# Altium footprint library CN_IDC14_1-828586-4.PcbLib: 1 footprints
Each footprint in its own frame and in the unit in brackets; x right, y up, seen from the top. Pads: shape width x height; smd on the part's side, far side on the other; paste and mask are expansions set on the pad; w line width, h text height; cw(c..) or ccw(c..) is an arc to the next point about the centre after c.
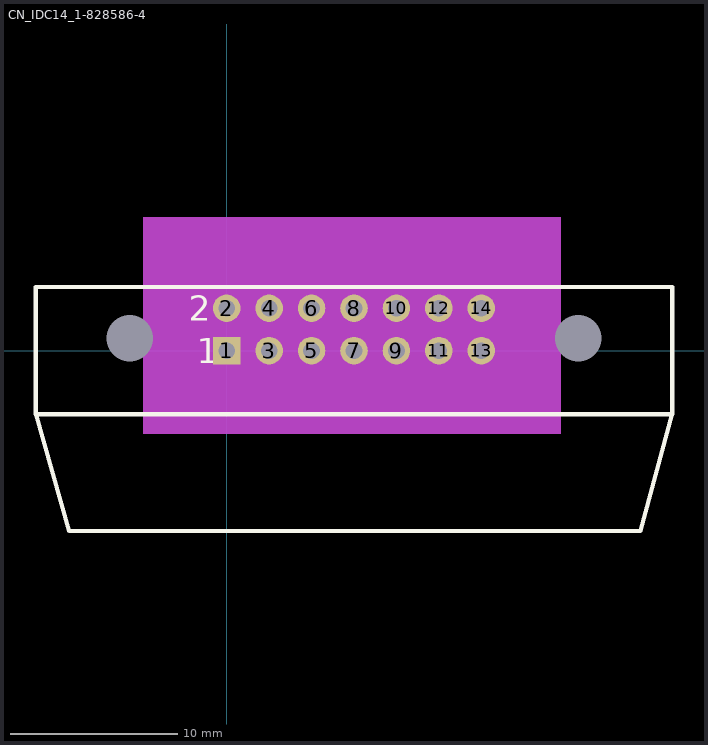
[diagram p0: the footprint, top view; thin cyan lines are the x and y axes]

## CN_IDC14_1-828586-4 [mm] "TE Connectivity: 1-828586-4  / Harting 09 18 514 7903"
height 23.3
pads (16):
  rect 1.65x1.65 hole 1: 1(0,0)
  round 1.65 hole 1: 2(0,2.54) 3(2.54,0) 4(2.54,2.54) 5(5.08,0) 6(5.08,2.54) 7(7.62,0) 8(7.62,2.54) 9(10.16,0) 10(10.16,2.54) 11(12.7,0) 12(12.7,2.54) 13(15.24,0) 14(15.24,2.54)
  round 0 hole 2.8 unplated mask+1.4: MH1(-5.8,0.74) MH2(21.04,0.74)
Top Overlay:
  lines w0.254: -11.43,-3.81 -9.434,-10.795 23.676,-10.795 24.765,-10.795 26.67,-3.81 ; -11.43,-3.81 26.67,-3.81 ; -11.43,-3.81 -11.43,3.81 26.67,3.81 26.67,-3.81
  text "2" at -2.28,1.79 h1.5
  text "1" at -1.78,-0.75 h1.5
Mechanical 3 keep-out:
  rectangle: -5,-5 20,8
3D body: height 8.5, standoff -3.3, extent -11.005,-23.92 26.245,3.38